# Altium schematic symbol library M29W320EB.Schlib: 1 symbol
Pins are listed as number, name and electrical type; pins without a type are passive.

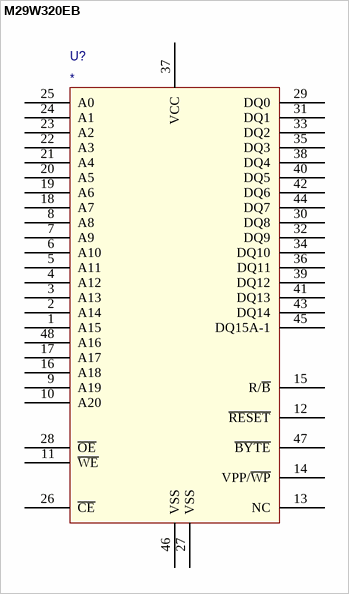
[diagram p0: symbol M29W320EB]

## M29W320EB
designator U?
4MB NOR FLASH (4x16)
pins: 1 A15, 2 A14, 3 A13, 4 A12, 5 A11, 6 A10, 7 A9, 8 A8, 9 A19, 10 A20, 11 ~{WE}, 12 ~{RESET}, 13 NC, 14 VPP/~{WP}, 15 R/~{B}, 16 A18, 17 A17, 18 A7, 19 A6, 20 A5, 21 A4, 22 A3, 23 A2, 24 A1, 25 A0, 26 ~{CE}, 27 VSS, 28 ~{OE}, 29 DQ0, 30 DQ8, 31 DQ1, 32 DQ9, 33 DQ2, 34 DQ10, 35 DQ3, 36 DQ11, 37 VCC, 38 DQ4, 39 DQ12, 40 DQ5, 41 DQ13, 42 DQ6, 43 DQ14, 44 DQ7, 45 DQ15A-1, 46 VSS, 47 ~{BYTE}, 48 A16